# Altium schematic symbol library RES,100R,1%,0.25W,1206.Schlib: 1 symbol
Pins are listed as number, name and electrical type; pins without a type are passive.

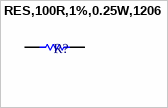
[diagram p0: symbol RES,100R,1%,0.25W,1206]

## RES,100R,1%,0.25W,1206
designator R?
pins: 1, 2